# EAGLE library part 050_610_?-35/70 (library con-sullinselectronics)
.050 DIP EDGE CARD CONNECTOR .050 [1.27mm] CONTACT CENTERS .610" INSULATEOR HEIGHT Source: .050 DIP EDGE CARD.pdf
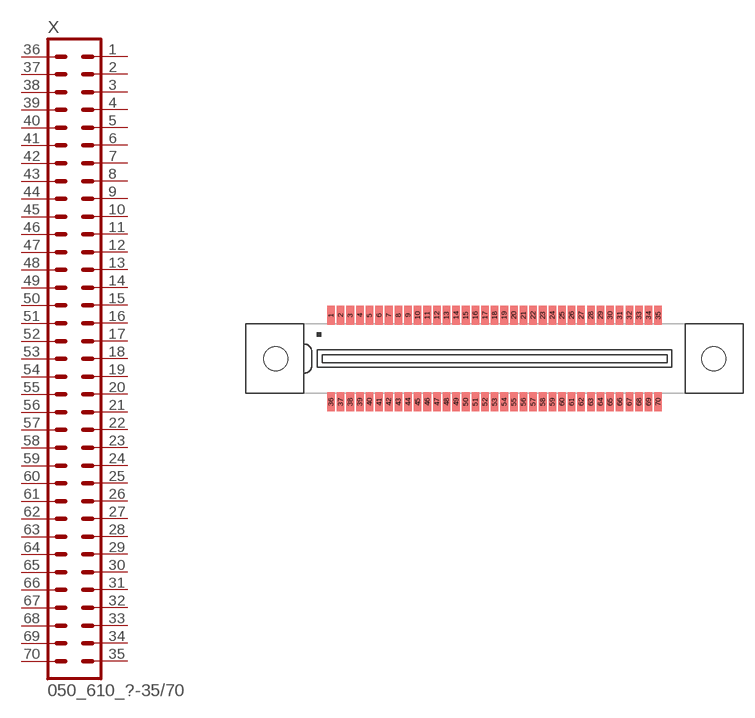
[diagram p11: symbol with the pads of 050_610_HF-35/70; footprint 050_610_HF-35/70]

Designator prefix X

## 050_610_HF-35/70 (OC_FARNELL: unknown; OC_NEWARK: unknown)  [050_610_HF-35/70]
1  1  pas
2  2  pas
3  3  pas
4  4  pas
5  5  pas
6  6  pas
7  7  pas
8  8  pas
9  9  pas
10  10  pas
11  11  pas
12  12  pas
13  13  pas
14  14  pas
15  15  pas
16  16  pas
17  17  pas
18  18  pas
19  19  pas
20  20  pas
21  21  pas
22  22  pas
23  23  pas
24  24  pas
25  25  pas
26  26  pas
27  27  pas
28  28  pas
29  29  pas
30  30  pas
31  31  pas
32  32  pas
33  33  pas
34  34  pas
35  35  pas
36  36  pas
37  37  pas
38  38  pas
39  39  pas
40  40  pas
41  41  pas
42  42  pas
43  43  pas
44  44  pas
45  45  pas
46  46  pas
47  47  pas
48  48  pas
49  49  pas
50  50  pas
51  51  pas
52  52  pas
53  53  pas
54  54  pas
55  55  pas
56  56  pas
57  57  pas
58  58  pas
59  59  pas
60  60  pas
61  61  pas
62  62  pas
63  63  pas
64  64  pas
65  65  pas
66  66  pas
67  67  pas
68  68  pas
69  69  pas
70  70  pas

## Footprint 050_610_HF-35/70 (pad centres in mm)
.050 DIP EDGE CARD CONNECTOR SURFACE MOUNT .050 [1.27mm] CONTACT CENTERS .610" INSULATEOR HEIGHT Source: .050 DIP EDGE CARD.pdf
smd 1 x 2.5: 1 -21.59,5.715; 2 -20.32,5.715; 3 -19.05,5.715; 4 -17.78,5.715; 5 -16.51,5.715; 6 -15.24,5.715; 7 -13.97,5.715; 8 -12.7,5.715; 9 -11.43,5.715; 10 -10.16,5.715; 11 -8.89,5.715; 12 -7.62,5.715; 13 -6.35,5.715; 14 -5.08,5.715; 15 -3.81,5.715; 16 -2.54,5.715; 17 -1.27,5.715; 18 0,5.715; 19 1.27,5.715; 20 2.54,5.715; 21 3.81,5.715; 22 5.08,5.715; 23 6.35,5.715; 24 7.62,5.715; 25 8.89,5.715; 26 10.16,5.715; 27 11.43,5.715; 28 12.7,5.715; 29 13.97,5.715; 30 15.24,5.715; 31 16.51,5.715; 32 17.78,5.715; 33 19.05,5.715; 34 20.32,5.715; 35 21.59,5.715; 36 -21.59,-5.715; 37 -20.32,-5.715; 38 -19.05,-5.715; 39 -17.78,-5.715; 40 -16.51,-5.715; 41 -15.24,-5.715; 42 -13.97,-5.715; 43 -12.7,-5.715; 44 -11.43,-5.715; 45 -10.16,-5.715; 46 -8.89,-5.715; 47 -7.62,-5.715; 48 -6.35,-5.715; 49 -5.08,-5.715; 50 -3.81,-5.715; 51 -2.54,-5.715; 52 -1.27,-5.715; 53 0,-5.715; 54 1.27,-5.715; 55 2.54,-5.715; 56 3.81,-5.715; 57 5.08,-5.715; 58 6.35,-5.715; 59 7.62,-5.715; 60 8.89,-5.715; 61 10.16,-5.715; 62 11.43,-5.715; 63 12.7,-5.715; 64 13.97,-5.715; 65 15.24,-5.715; 66 16.51,-5.715; 67 17.78,-5.715; 68 19.05,-5.715; 69 20.32,-5.715; 70 21.59,-5.715
hole 3.18 at -28.905,0
hole 3.18 at 28.905,0